# Altium footprint library 贴片.PcbLib: 190 footprints (part 10 of 13)
Each footprint in its own frame and in the unit in brackets; x right, y up, seen from the top. Pads: shape width x height; smd on the part's side, far side on the other; paste and mask are expansions set on the pad; w line width, h text height; cw(c..) or ccw(c..) is an arc to the next point about the centre after c.
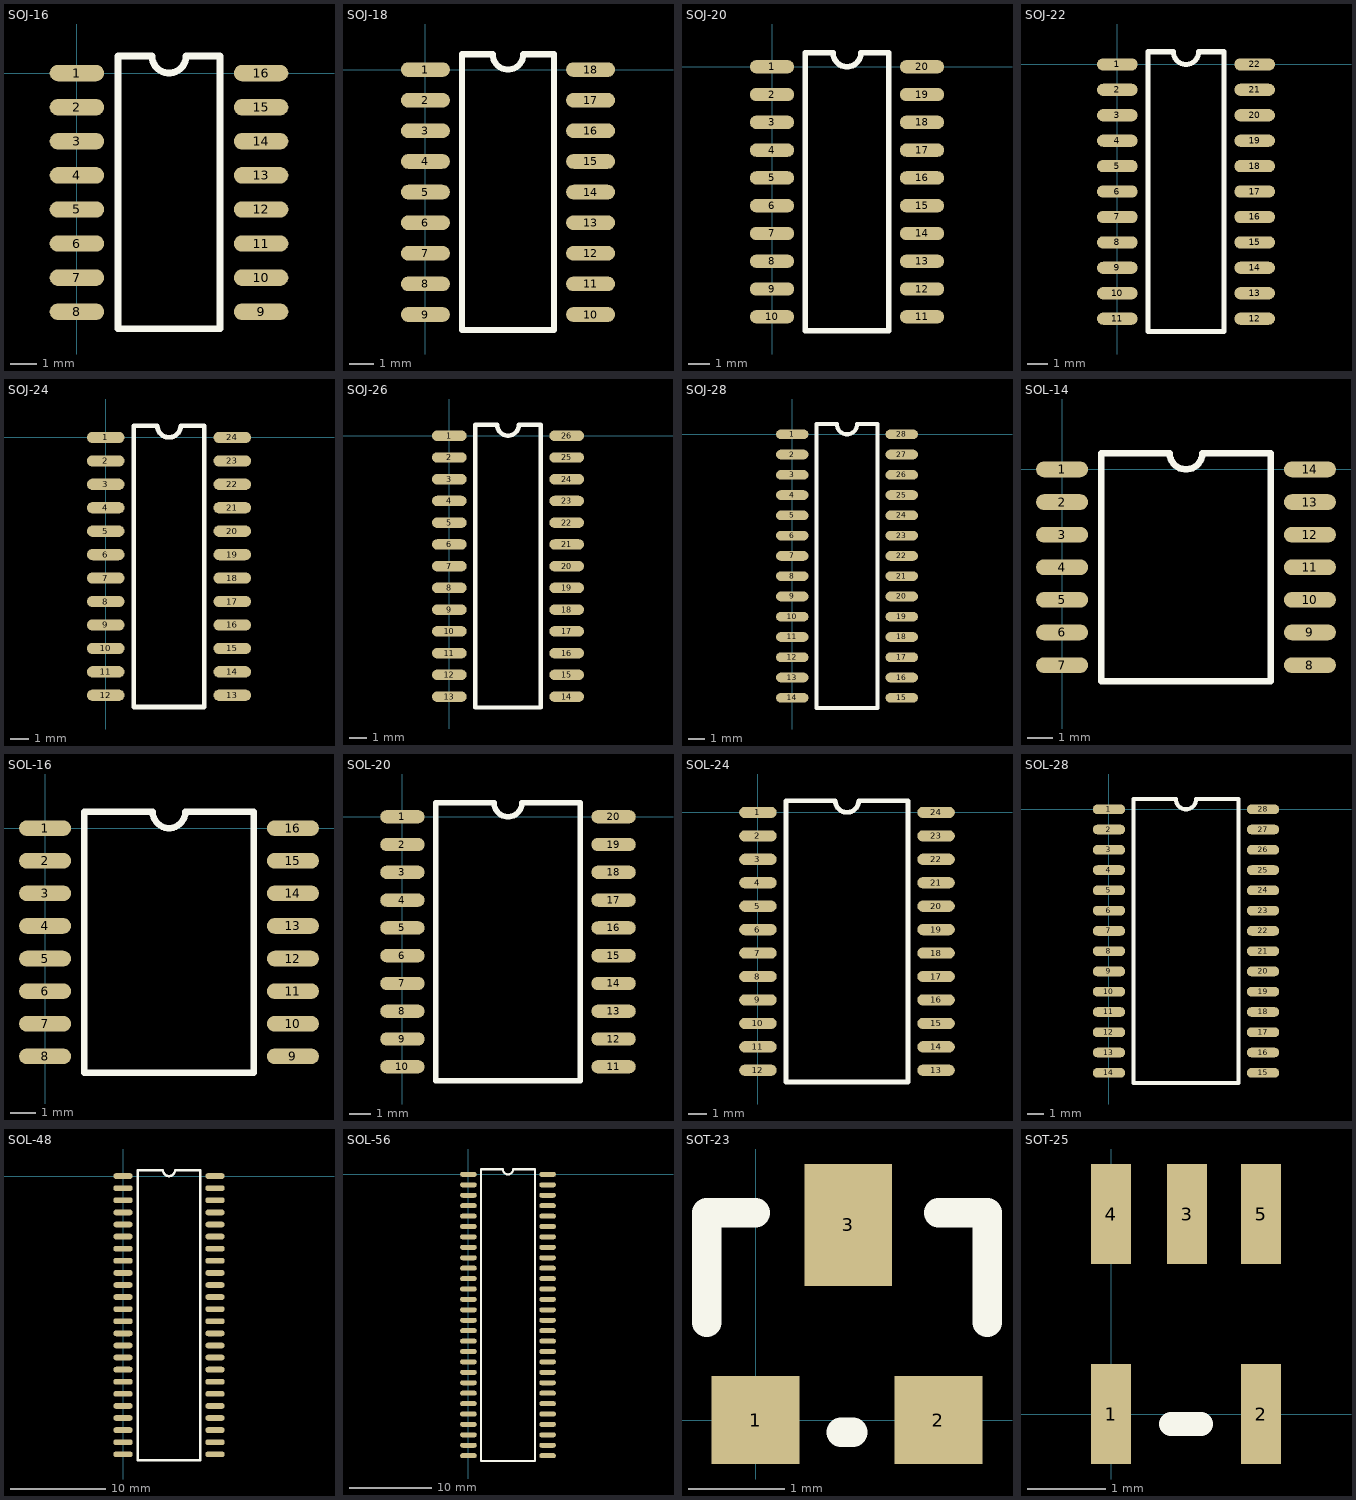
[diagram p9: the footprints below, top view; thin cyan lines are the x and y axes]

## SOJ-16 [mil]
pads (16):
  oval 80x24 smd: 1(0,0) 2(0,-50) 3(0,-100) 4(0,-150) 5(0,-200) 6(0,-250) 7(0,-300) 8(0,-350) 9(270,-350) 10(270,-300) 11(270,-250) 12(270,-200) 13(270,-150) 14(270,-100) 15(270,-50) 16(270,0)
TopOverlay:
  lines w10: 60,-375 210,-375 210,25 160,25 cw(c135,25) 110,25 60,25 60,-375

## SOJ-18 [mil]
pads (18):
  oval 80x24 smd: 1(0,0) 2(0,-50) 3(0,-100) 4(0,-150) 5(0,-200) 6(0,-250) 7(0,-300) 8(0,-350) 9(0,-400) 10(270,-400) 11(270,-350) 12(270,-300) 13(270,-250) 14(270,-200) 15(270,-150) 16(270,-100) 17(270,-50) 18(270,0)
TopOverlay:
  lines w10: 60,-425 210,-425 210,25 160,25 cw(c135,25) 110,25 60,25 60,-425

## SOJ-20 [mil]
pads (20):
  oval 80x24 smd: 1(0,0) 2(0,-50) 3(0,-100) 4(0,-150) 5(0,-200) 6(0,-250) 7(0,-300) 8(0,-350) 9(0,-400) 10(0,-450) 11(270,-450) 12(270,-400) 13(270,-350) 14(270,-300) 15(270,-250) 16(270,-200) 17(270,-150) 18(270,-100) 19(270,-50) 20(270,0)
TopOverlay:
  lines w10: 60,-475 210,-475 210,25 160,25 cw(c135,25) 110,25 60,25 60,-475

## SOJ-22 [mil]
pads (22):
  oval 80x24 smd: 1(0,0) 2(0,-50) 3(0,-100) 4(0,-150) 5(0,-200) 6(0,-250) 7(0,-300) 8(0,-350) 9(0,-400) 10(0,-450) 11(0,-500) 12(270,-500) 13(270,-450) 14(270,-400) 15(270,-350) 16(270,-300) 17(270,-250) 18(270,-200) 19(270,-150) 20(270,-100) 21(270,-50) 22(270,0)
TopOverlay:
  lines w10: 60,-525 210,-525 210,25 160,25 cw(c135,25) 110,25 60,25 60,-525

## SOJ-24 [mil]
pads (24):
  oval 80x24 smd: 1(0,0) 2(0,-50) 3(0,-100) 4(0,-150) 5(0,-200) 6(0,-250) 7(0,-300) 8(0,-350) 9(0,-400) 10(0,-450) 11(0,-500) 12(0,-550) 13(270,-550) 14(270,-500) 15(270,-450) 16(270,-400) 17(270,-350) 18(270,-300) 19(270,-250) 20(270,-200) 21(270,-150) 22(270,-100) 23(270,-50) 24(270,0)
TopOverlay:
  lines w10: 60,-575 60,25 110,25 ccw(c135,25) 160,25 210,25 210,-575 60,-575

## SOJ-26 [mil]
pads (26):
  oval 80x24 smd: 1(0,0) 2(0,-50) 3(0,-100) 4(0,-150) 5(0,-200) 6(0,-250) 7(0,-300) 8(0,-350) 9(0,-400) 10(0,-450) 11(0,-500) 12(0,-550) 13(0,-600) 14(270,-600) 15(270,-550) 16(270,-500) 17(270,-450) 18(270,-400) 19(270,-350) 20(270,-300) 21(270,-250) 22(270,-200) 23(270,-150) 24(270,-100) 25(270,-50) 26(270,0)
TopOverlay:
  lines w10: 60,-625 60,25 110,25 ccw(c135,25) 160,25 210,25 210,-625 60,-625

## SOJ-28 [mil]
pads (28):
  oval 80x24 smd: 1(0,0) 2(0,-50) 3(0,-100) 4(0,-150) 5(0,-200) 6(0,-250) 7(0,-300) 8(0,-350) 9(0,-400) 10(0,-450) 11(0,-500) 12(0,-550) 13(0,-600) 14(0,-650) 15(270,-650) 16(270,-600) 17(270,-550) 18(270,-500) 19(270,-450) 20(270,-400) 21(270,-350) 22(270,-300) 23(270,-250) 24(270,-200) 25(270,-150) 26(270,-100) 27(270,-50) 28(270,0)
TopOverlay:
  lines w10: 60,-675 210,-675 210,25 160,25 cw(c135,25) 110,25 60,25 60,-675

## SOL-14 [mil]
pads (14):
  oval 80x24 smd: 1(0,0) 2(0,-50) 3(0,-100) 4(0,-150) 5(0,-200) 6(0,-250) 7(0,-300) 8(380,-300) 9(380,-250) 10(380,-200) 11(380,-150) 12(380,-100) 13(380,-50) 14(380,0)
TopOverlay:
  lines w10: 60,-325 60,25 165,25 ccw(c190,25) 215,25 320,25 320,-325 60,-325

## SOL-16 [mil]
pads (16):
  oval 80x24 smd: 1(0,0) 2(0,-50) 3(0,-100) 4(0,-150) 5(0,-200) 6(0,-250) 7(0,-300) 8(0,-350) 9(380,-350) 10(380,-300) 11(380,-250) 12(380,-200) 13(380,-150) 14(380,-100) 15(380,-50) 16(380,0)
TopOverlay:
  lines w10: 60,-375 320,-375 320,25 215,25 cw(c190,25) 165,25 60,25 60,-375

## SOL-20 [mil]
pads (20):
  oval 80x24 smd: 1(0,0) 2(0,-50) 3(0,-100) 4(0,-150) 5(0,-200) 6(0,-250) 7(0,-300) 8(0,-350) 9(0,-400) 10(0,-450) 11(380,-450) 12(380,-400) 13(380,-350) 14(380,-300) 15(380,-250) 16(380,-200) 17(380,-150) 18(380,-100) 19(380,-50) 20(380,0)
TopOverlay:
  lines w10: 60,-475 60,25 165,25 ccw(c190,25) 215,25 320,25 320,-475 60,-475

## SOL-24 [mil]
pads (24):
  oval 80x24 smd: 1(0,0) 2(0,-50) 3(0,-100) 4(0,-150) 5(0,-200) 6(0,-250) 7(0,-300) 8(0,-350) 9(0,-400) 10(0,-450) 11(0,-500) 12(0,-550) 13(380,-550) 14(380,-500) 15(380,-450) 16(380,-400) 17(380,-350) 18(380,-300) 19(380,-250) 20(380,-200) 21(380,-150) 22(380,-100) 23(380,-50) 24(380,0)
TopOverlay:
  lines w10: 60,-575 320,-575 320,25 215,25 cw(c190,25) 165,25 60,25 60,-575

## SOL-28 [mil]
pads (28):
  oval 80x24 smd: 1(0,0) 2(0,-50) 3(0,-100) 4(0,-150) 5(0,-200) 6(0,-250) 7(0,-300) 8(0,-350) 9(0,-400) 10(0,-450) 11(0,-500) 12(0,-550) 13(0,-600) 14(0,-650) 15(380,-650) 16(380,-600) 17(380,-550) 18(380,-500) 19(380,-450) 20(380,-400) 21(380,-350) 22(380,-300) 23(380,-250) 24(380,-200) 25(380,-150) 26(380,-100) 27(380,-50) 28(380,0)
TopOverlay:
  lines w10: 60,-675 60,25 165,25 ccw(c190,25) 215,25 320,25 320,-675 60,-675

## SOL-48 [mil]
pads (48):
  oval 80x24 smd: 1(0,0) 2(0,-50) 3(0,-100) 4(0,-150) 5(0,-200) 6(0,-250) 7(0,-300) 8(0,-350) 9(0,-400) 10(0,-450) 11(0,-500) 12(0,-550) 13(0,-600) 14(0,-650) 15(0,-700) 16(0,-750) 17(0,-800) 18(0,-850) 19(0,-900) 20(0,-950) 21(0,-1000) 22(0,-1050) 23(0,-1100) 24(0,-1150) 25(380,-1150) 26(380,-1100) 27(380,-1050) 28(380,-1000) 29(380,-950) 30(380,-900) 31(380,-850) 32(380,-800) 33(380,-750) 34(380,-700) 35(380,-650) 36(380,-600) 37(380,-550) 38(380,-500) 39(380,-450) 40(380,-400) 41(380,-350) 42(380,-300) 43(380,-250) 44(380,-200) 45(380,-150) 46(380,-100) 47(380,-50) 48(380,0)
TopOverlay:
  lines w10: 60,-1175 320,-1175 320,25 215,25 cw(c190,25) 165,25 60,25 60,-1175

## SOL-56 [mil]
pads (56):
  oval 80x24 smd: 1(0,0) 2(0,-50) 3(0,-100) 4(0,-150) 5(0,-200) 6(0,-250) 7(0,-300) 8(0,-350) 9(0,-400) 10(0,-450) 11(0,-500) 12(0,-550) 13(0,-600) 14(0,-650) 15(0,-700) 16(0,-750) 17(0,-800) 18(0,-850) 19(0,-900) 20(0,-950) 21(0,-1000) 22(0,-1050) 23(0,-1100) 24(0,-1150) 25(0,-1200) 26(0,-1250) 27(0,-1300) 28(0,-1350) 29(380,-1350) 30(380,-1300) 31(380,-1250) 32(380,-1200) 33(380,-1150) 34(380,-1100) 35(380,-1050) 36(380,-1000) 37(380,-950) 38(380,-900) 39(380,-850) 40(380,-800) 41(380,-750) 42(380,-700) 43(380,-650) 44(380,-600) 45(380,-550) 46(380,-500) 47(380,-450) 48(380,-400) 49(380,-350) 50(380,-300) 51(380,-250) 52(380,-200) 53(380,-150) 54(380,-100) 55(380,-50) 56(380,0)
TopOverlay:
  lines w10: 60,-1375 60,25 165,25 ccw(c190,25) 215,25 320,25 320,-1375 60,-1375

## SOT-23 [mil]
pads (3):
  rect 36x36 smd: 1(0,0) 2(75,0)
  rect 36x50 smd: 3(38,80)
TopOverlay:
  lines w12: -20,40 -20,85 0,85 ; 35,-5 40,-5 ; 75,85 95,85 95,40

## SOT-25 [mil]
pads (5):
  rect 20x50 smd: 1(0,0) 2(75,0) 3(38,100) 4(0,100) 5(75,100)
TopOverlay:
  lines w12: 30,-5 45,-5